# Altium footprint library 常用元件.PcbLib: 186 footprints (part 12 of 12)
Each footprint in its own frame and in the unit in brackets; x right, y up, seen from the top. Pads: shape width x height; smd on the part's side, far side on the other; paste and mask are expansions set on the pad; w line width, h text height; cw(c..) or ccw(c..) is an arc to the next point about the centre after c.
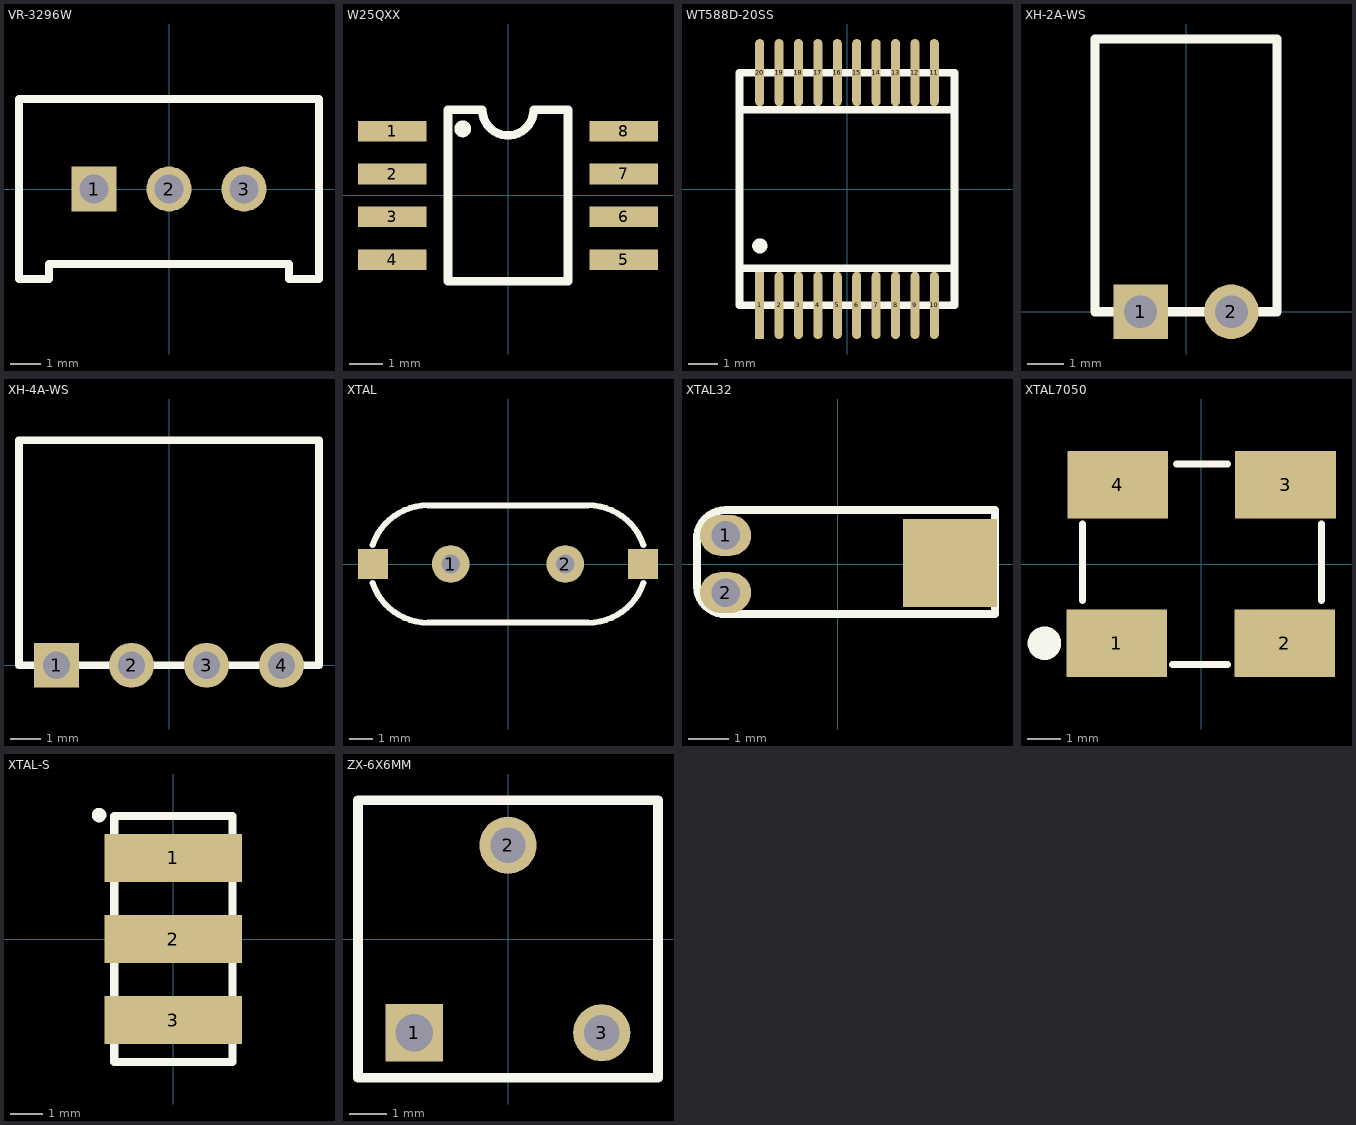
[diagram p11: the footprints below, top view; thin cyan lines are the x and y axes]

## VR-3296W [mm]
pads (3):
  rect 1.5x1.5 hole 0.95: 1(-2.5,0)
  round 1.5 hole 0.95: 2(0,0) 3(2.5,0)
Top Overlay:
  lines w0.254: -5,-3 -5,3 5,3 5,-3 4,-3 4,-2.5 -4,-2.5 -4,-3 -5,-3

## W25QXX [mil]
pads (8):
  rect 80x24 smd: 1(-135,75.03) 2(-135,24.97) 3(-135,-25.03) 4(-135,-75.03) 5(135,-74.97) 6(135,-24.97) 7(135,25.03) 8(135,75.03)
Top Overlay:
  circle w9.84: c-52.77,77.71 r4.92
  lines w10: -60,99.97 -59.94,100.03 -30,100.03 ccw(c0,100.03) 30,100.03 69.94,100.03 70,99.97 70,-100.03 -70,-100.03 -70,99.97 -40,99.97

## WT588D-20SS [mm]
pads (20):
  rect 0.3x2.25 smd: 1(-2.925,-3.9)
  oval 0.3x2.25 smd: 2(-2.275,-3.9) 3(-1.625,-3.9) 4(-0.975,-3.9) 5(-0.325,-3.9) 6(0.325,-3.9) 7(0.975,-3.9) 8(1.625,-3.9) 9(2.275,-3.9) 10(2.925,-3.9) 11(2.925,3.9) 12(2.275,3.9) 13(1.625,3.9) 14(0.975,3.9) 15(0.325,3.9) 16(-0.325,3.9) 17(-0.975,3.9) 18(-1.625,3.9) 19(-2.275,3.9) 20(-2.925,3.9)
Top Overlay:
  circle w0.254: c-2.921,-1.905 r0.127
  lines w0.254: -3.6,-2.65 3.6,-2.65 ; -3.6,2.65 3.6,2.65 ; -3.6,-3.9 -3.6,3.9 3.6,3.9 3.6,-3.9 -3.6,-3.9

## XH-2A-WS [mm]
pads (2):
  rect 1.5x1.5 hole 0.9: 1(-1.25,0)
  round 1.5 hole 0.9: 2(1.25,0)
Top Overlay:
  lines w0.254: -2.5,0 -2.5,1.25 -2.5,2.5 -2.5,7.5 0,7.5 2.5,7.5 2.5,2.5 2.5,0 -2.5,0

## XH-4A-WS [mm]
pads (4):
  rect 1.5x1.5 hole 0.9: 1(-3.75,0)
  round 1.5 hole 0.9: 2(-1.25,0) 3(1.25,0) 4(3.75,0)
Top Overlay:
  lines w0.254: -5,0 5,0 5,5 5,7.5 -5,7.5 -5,5 -5,0

## XTAL [mm] "8M"
pads (4):
  round 1.6 hole 0.8: 1(-2.44,0) 2(2.44,0)
  rect 1.27x1.27 smd: ""(-5.75,0) ""(5.75,0)
Top Overlay:
  lines w0.254: -5.765,-0.809 ccw(c-3.4,0) -3.4,-2.5 ; -5.765,0.809 cw(c-3.4,0) -3.4,2.5 ; -3.405,2.5 3.4,2.5 cw(c3.4,0) 5.766,0.809 ; -3.4,-2.5 3.4,-2.5 ccw(c3.4,0) 5.766,-0.809
3D body: height 3.18, standoff -0.5, extent -5.699,-2.5 5.801,2.5

## XTAL32 [mil]
pads (3):
  oval 50x40 hole 28: 1(-110,28) 2(-110,-28)
  rect 92.13x86 smd: ""(110,1)
Top Overlay:
  lines w8: -138,-22 ccw(c-110.5,-21.5) -110,-49 154,-49 154,53 -110,53 ccw(c-109.5,24.5) -138,24 -138,-22
3D body: height 80.71, standoff -11.81, extent -114.83,-39 158.83,43.68

## XTAL7050 [mm]
pads (4):
  rect 3x2 smd: 1(-2.513,-2.358) 2(2.487,-2.358) 3(2.513,2.358) 4(-2.487,2.358)
Top Overlay:
  circle w0.5: c-4.668,-2.358 r0.25
  lines w0.203: -3.529,-1.088 -3.529,1.198 ; -0.862,-2.993 0.789,-2.993 ; -0.735,2.976 0.789,2.976 ; 3.583,-1.088 3.583,1.198

## XTAL-S [mm] "贴片声表面谐振器"
pads (3):
  rect 4.3x1.5 smd: 1(0,2.54) 2(0,0) 3(0,-2.54)
Top Overlay:
  circle w0.254: c-2.325,3.875 r0.1
  lines w0.254: -1.85,-3.85 -1.85,3.85 -0.385,3.85 0.385,3.85 1.85,3.85 1.85,-3.85 -1.85,-3.85

## ZX-6X6MM [mil] "直插可调电阻"
pads (3):
  rect 60x60 hole 39.37: 1(-98.43,-98.43)
  round 60 hole 37: 2(0,98.43) 3(98.43,-98.43)
Top Overlay:
  lines w10: -157.48,-145.67 157.48,-145.67 157.48,145.67 -157.48,145.67 -157.48,-145.67